# Altium footprint library FCR7350Y.PcbLib: 1 footprints
Each footprint in its own frame and in the unit in brackets; x right, y up, seen from the top. Pads: shape width x height; smd on the part's side, far side on the other; paste and mask are expansions set on the pad; w line width, h text height; cw(c..) or ccw(c..) is an arc to the next point about the centre after c.
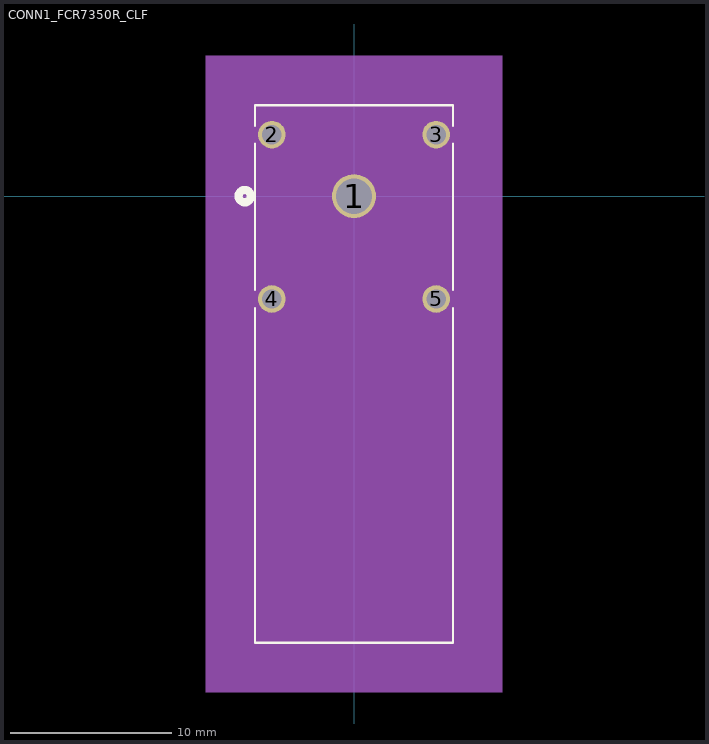
[diagram p0: the footprint, top view; thin cyan lines are the x and y axes]

## CONN1_FCR7350R_CLF [mil]
pads (5):
  round 107 hole 87 mask+0: 1(0,0)
  round 67 hole 47: 2(-200,149.61) 3(200,149.61) 4(-200,-250.39) 5(200,-250.39)
Top Overlay:
  circle w20: c-266,0 r15
  lines w6: -241,-272.54 -241,-1087.46 241,-1087.46 241,-272.54 ; -241,-228.25 -241,127.46 ; -241,171.75 -241,221.54 241,221.54 241,171.75 ; 241,-228.25 241,127.46
Bottom Overlay:
  circle w20: c-266,0 r15
Mechanical 5:
  region: -361,341.54 361,341.54 361,-1207.46 -361,-1207.46
Mechanical 13:
  circle w20: c0,75 r15
  lines w1: -236,-1082.46 236,-1082.46 236,216.54 -236,216.54 -236,-1082.46
Mechanical 15:
  region: 246,226.54 -246,226.54 -246,-1092.46 246,-1092.46
  lines w6: -246,-1092.46 -246,226.54 246,226.54 246,-1092.46 -246,-1092.46
3D body: height 10, standoff 0, extent 0,0 10,10